# EAGLE library part SN74LS40N (library User-Submitted)
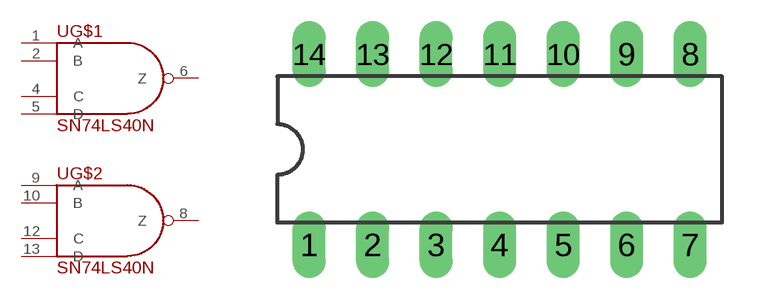
[diagram p39: symbol with the pads of DIL14; footprint DIL14]

Designator prefix -; gates G$1=SN74LS40 G$2=SN74LS40

## SN74LS40N  [DIL14]
1  G$1:A  in
2  G$1:B  in
4  G$1:C  in
5  G$1:D  in
6  G$1:Z  out
8  G$2:Z  out
9  G$2:A  in
10  G$2:B  in
12  G$2:C  in
13  G$2:D  in

## Footprint DIL14 (pad centres in mm)
Dual In Line Package
drill 0.813 long: 1 -7.62,-3.81; 2 -5.08,-3.81; 3 -2.54,-3.81; 4 0,-3.81; 5 2.54,-3.81; 6 5.08,-3.81; 7 7.62,-3.81; 8 7.62,3.81; 9 5.08,3.81; 10 2.54,3.81; 11 0,3.81; 12 -2.54,3.81; 13 -5.08,3.81; 14 -7.62,3.81